# Altium footprint library RES_CHIP_2010_DIY.PcbLib: 1 footprints
Each footprint in its own frame and in the unit in brackets; x right, y up, seen from the top. Pads: shape width x height; smd on the part's side, far side on the other; paste and mask are expansions set on the pad; w line width, h text height; cw(c..) or ccw(c..) is an arc to the next point about the centre after c.
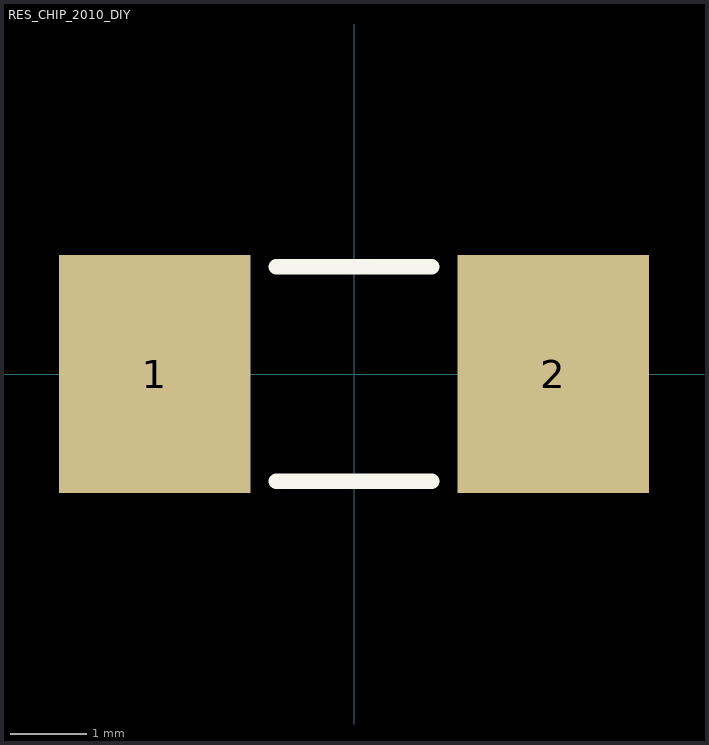
[diagram p0: the footprint, top view; thin cyan lines are the x and y axes]

## RES_CHIP_2010_DIY [mm]
height 0.7
pads (2):
  rect 2.5x3.1 smd: 1(-2.6,0) 2(2.6,0)
Top Overlay:
  lines w0.2: -1.016,-1.397 1.016,-1.397 ; -1.016,1.397 1.016,1.397